# Altium schematic symbol library Microchip Power Management Power MOSFET.SchLib: 11 symbols
Pins are listed as number, name and electrical type; pins without a type are passive.

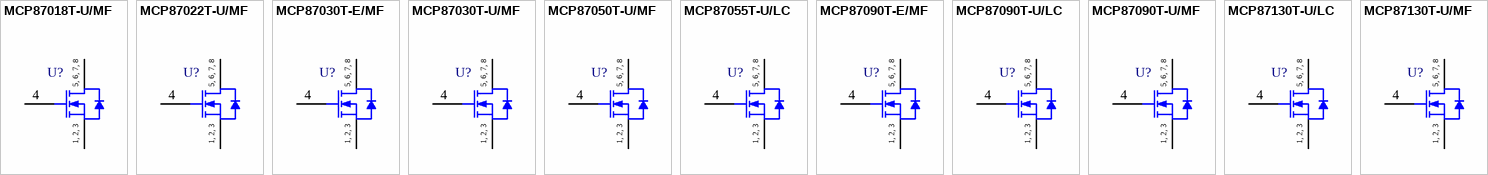
[diagram p0: symbols MCP87018T-U/MF to MCP87130T-U/MF]

## MCP87018T-U/MF
designator U?
High-Speed N-Channel Power MOSFET, Single Configuration, 25 V, -55 to 150 degC, 8-pin PDFN (MF8), Tape and Reel; Manufacturer: Microchip; PartNumber: MCP87018T-U/MF; DatasheetVersion: Rev. A; PackageVersion: C04-188B; PackageReference: PDFN-MF8; PackageDescription: 8-Lead Power Dual Flatpack No Lead Package, 5 x 6 mm Body, 1.27 mm Pitch; Supplier 1: Digi-Key; Supplier Part Number 1: MCP87018T-U/MF-ND; Supplier 2: Newark; Supplier Part Number 2: 53W9402; Supplier 3: Mouser; Supplier Part Number 3: 579-MCP87018T-U/MF; Mounting Technology: Surface Mount; ComponentLink1Description: Manufacturer URL; ComponentLink1URL: http://www.microchip.com; ComponentLink2Description: Datasheet; ComponentLink2URL: http://ww1.microchip.com/downloads/en/DeviceDoc/22329A.pdf; ComponentLink3Description: Package Specification; ComponentLink3URL: http://www.microchip.com/stellent/groups/techpub_sg/documents/packagingspec/en012702.pdf; ComponentLink4Description: Product URL; ComponentLink4URL: http://www.microchip.com/MCP87018
footprint MCHP-PDFN-MF8_V (PDFN, 8-Leads, Body 6x5mm, Pitch 1.27mm)
pins: 1 S "Source pin", 2 S "Source pin", 3 S "Source pin", 4 G "Gate pin", 5 D "Drain pin, including exposed thermal pad", 6 D "Drain pin, including exposed thermal pad", 7 D "Drain pin, including exposed thermal pad", 8 D "Drain pin, including exposed thermal pad"
text: 5, 6, 7, 8; 1, 2, 3

## MCP87022T-U/MF
designator U?
High-Speed N-Channel Power MOSFET, Single Configuration, 25 V, -55 to 150 degC, 8-pin PDFN (MF8), Tape and Reel; Manufacturer: Microchip; PartNumber: MCP87022T-U/MF; DatasheetVersion: Rev. B; PackageVersion: C04-188B; PackageReference: PDFN-MF8; PackageDescription: 8-Lead Power Dual Flatpack No Lead Package, 5 x 6 mm Body, 1.27 mm Pitch; Supplier 1: Digi-Key; Supplier Part Number 1: MCP87022T-U/MF-ND; Supplier 2: Newark; Supplier Part Number 2: 47W6614; Supplier 3: Mouser; Supplier Part Number 3: 579-MCP87022T-U/MF; Mounting Technology: Surface Mount; ComponentLink1Description: Manufacturer URL; ComponentLink1URL: http://www.microchip.com; ComponentLink2Description: Datasheet; ComponentLink2URL: http://ww1.microchip.com/downloads/en/DeviceDoc/25133B.pdf; ComponentLink3Description: Package Specification; ComponentLink3URL: http://www.microchip.com/stellent/groups/techpub_sg/documents/packagingspec/en012702.pdf; ComponentLink4Description: Product URL; ComponentLink4URL: http://www.microchip.com/MCP87022
footprint MCHP-PDFN-MF8_V (PDFN, 8-Leads, Body 6x5mm, Pitch 1.27mm)
pins: 1 S "Source pin", 2 S "Source pin", 3 S "Source pin", 4 G "Gate pin", 5 D "Drain pin, including exposed thermal pad", 6 D "Drain pin, including exposed thermal pad", 7 D "Drain pin, including exposed thermal pad", 8 D "Drain pin, including exposed thermal pad"
text: 5, 6, 7, 8; 1, 2, 3

## MCP87030T-E/MF
designator U?
High-Speed N-Channel Power MOSFET, Single Configuration, 25 V, -40 to 125 degC, 8-pin PDFN (MF8), Tape and Reel; Manufacturer: Microchip; PartNumber: MCP87030T-E/MF; DatasheetVersion: Rev. A; PackageVersion: C04-188B; PackageReference: PDFN-MF8; PackageDescription: 8-Lead Power Dual Flatpack No Lead Package, 5 x 6 mm Body, 1.27 mm Pitch; Mounting Technology: Surface Mount; ComponentLink1Description: Manufacturer URL; ComponentLink1URL: http://www.microchip.com; ComponentLink2Description: Datasheet; ComponentLink2URL: http://ww1.microchip.com/downloads/en/DeviceDoc/22328A.pdf; ComponentLink3Description: Package Specification; ComponentLink3URL: http://www.microchip.com/stellent/groups/techpub_sg/documents/packagingspec/en012702.pdf; ComponentLink4Description: Product URL; ComponentLink4URL: http://www.microchip.com/MCP87030
footprint MCHP-PDFN-MF8_V (PDFN, 8-Leads, Body 6x5mm, Pitch 1.27mm)
pins: 1 S "Source pin", 2 S "Source pin", 3 S "Source pin", 4 G "Gate pin", 5 D "Drain pin, including exposed thermal pad", 6 D "Drain pin, including exposed thermal pad", 7 D "Drain pin, including exposed thermal pad", 8 D "Drain pin, including exposed thermal pad"
text: 5, 6, 7, 8; 1, 2, 3

## MCP87030T-U/MF
designator U?
High-Speed N-Channel Power MOSFET, Single Configuration, 25 V, -55 to 150 degC, 8-pin PDFN (MF8), Tape and Reel; Manufacturer: Microchip; PartNumber: MCP87030T-U/MF; DatasheetVersion: Rev. A; PackageVersion: C04-188B; PackageReference: PDFN-MF8; PackageDescription: 8-Lead Power Dual Flatpack No Lead Package, 5 x 6 mm Body, 1.27 mm Pitch; Supplier 1: Digi-Key; Supplier Part Number 1: MCP87030T-U/MF-ND; Supplier 2: Newark; Supplier Part Number 2: 53W9403; Supplier 3: Mouser; Supplier Part Number 3: 579-MCP87030T-U/MF; Mounting Technology: Surface Mount; ComponentLink1Description: Manufacturer URL; ComponentLink1URL: http://www.microchip.com; ComponentLink2Description: Datasheet; ComponentLink2URL: http://ww1.microchip.com/downloads/en/DeviceDoc/22328A.pdf; ComponentLink3Description: Package Specification; ComponentLink3URL: http://www.microchip.com/stellent/groups/techpub_sg/documents/packagingspec/en012702.pdf; ComponentLink4Description: Product URL; ComponentLink4URL: http://www.microchip.com/MCP87030
footprint MCHP-PDFN-MF8_V (PDFN, 8-Leads, Body 6x5mm, Pitch 1.27mm)
pins: 1 S "Source pin", 2 S "Source pin", 3 S "Source pin", 4 G "Gate pin", 5 D "Drain pin, including exposed thermal pad", 6 D "Drain pin, including exposed thermal pad", 7 D "Drain pin, including exposed thermal pad", 8 D "Drain pin, including exposed thermal pad"
text: 5, 6, 7, 8; 1, 2, 3

## MCP87050T-U/MF
designator U?
High-Speed N-Channel Power MOSFET, Single Configuration, 25 V, -55 to 150 degC, 8-pin PDFN (MF8), Tape and Reel; Manufacturer: Microchip; PartNumber: MCP87050T-U/MF; DatasheetVersion: Rev. B; PackageVersion: C04-188B; PackageReference: PDFN-MF8; PackageDescription: 8-Lead Power Dual Flatpack No Lead Package, 5 x 6 mm Body, 1.27 mm Pitch; Supplier 1: Digi-Key; Supplier Part Number 1: MCP87050T-U/MF-ND; Supplier 2: Newark; Supplier Part Number 2: 47W6615; Supplier 3: Mouser; Supplier Part Number 3: 579-MCP87050T-U/MF; Mounting Technology: Surface Mount; ComponentLink1Description: Manufacturer URL; ComponentLink1URL: http://www.microchip.com; ComponentLink2Description: Datasheet; ComponentLink2URL: http://ww1.microchip.com/downloads/en/DeviceDoc/22308B.pdf; ComponentLink3Description: Package Specification; ComponentLink3URL: http://www.microchip.com/stellent/groups/techpub_sg/documents/packagingspec/en012702.pdf; ComponentLink4Description: Product URL; ComponentLink4URL: http://www.microchip.com/MCP87050
footprint MCHP-PDFN-MF8_V (PDFN, 8-Leads, Body 6x5mm, Pitch 1.27mm)
pins: 1 S "Source pin", 2 S "Source pin", 3 S "Source pin", 4 G "Gate pin", 5 D "Drain pin, including exposed thermal pad", 6 D "Drain pin, including exposed thermal pad", 7 D "Drain pin, including exposed thermal pad", 8 D "Drain pin, including exposed thermal pad"
text: 5, 6, 7, 8; 1, 2, 3

## MCP87055T-U/LC
designator U?
High-Speed N-Channel Power MOSFET, Single Configuration, 25 V, -55 to 150 degC, 8-Pin PDFN (LC8), Tape and Reel; Manufacturer: Microchip; PartNumber: MCP87055T-U/LC; DatasheetVersion: Rev. B; PackageVersion: C04-195A; PackageReference: PDFN-LC8; PackageDescription: 8-Lead Power Dual Flatpack No Lead Package, 3.3 x 3.3 mm Body, 0.65 mm Pitch; Supplier 1: Digi-Key; Supplier Part Number 1: MCP87055T-U/LCTR-ND; Supplier 2: Digi-Key; Supplier Part Number 2: MCP87055T-U/LCCT-ND; Supplier 3: Digi-Key; Supplier Part Number 3: MCP87055T-U/LCDKR-ND; Supplier 4: Farnell; Supplier Part Number 4: 2309501; Supplier 5: Newark; Supplier Part Number 5: 90W1537; Supplier 6: Newark; Supplier Part Number 6: 72W2097; Supplier 7: Newark; Supplier Part Number 7: 47W6616; Supplier 8: Mouser; Supplier Part Number 8: 579-MCP87055T-U/LC; Packing: Tape and Reel; Mounting Technology: Surface Mount; ComponentLink1Description: Manufacturer URL; ComponentLink1URL: http://www.microchip.com/; ComponentLink2Description: Datasheet; ComponentLink2URL: http://ww1.microchip.com/downloads/en/DeviceDoc/22323B.pdf; ComponentLink3Description: Package Specification; ComponentLink3URL: http://ww1.microchip.com/downloads/en/DeviceDoc/20002332B.pdf
footprint MCHP-PDFN-LC8_V (SON, 8-Leads, Body 3.3x3.3mm, Pitch 0.65mm)
pins: 1 S "Source pin", 2 S "Source pin", 3 S "Source pin", 4 G "Gate pin", 5 D "Drain pin, including exposed thermal pad", 6 D "Drain pin, including exposed thermal pad", 7 D "Drain pin, including exposed thermal pad", 8 D "Drain pin, including exposed thermal pad"
text: 5, 6, 7, 8; 1, 2, 3

## MCP87090T-E/MF
designator U?
High-Speed N-Channel Power MOSFET, Single Configuration, 25 V, -40 to 125 degC, 8-pin PDFN (MF8), Tape and Reel; Manufacturer: Microchip; PartNumber: MCP87090T-E/MF; DatasheetVersion: Rev. A; PackageVersion: C04-188B; PackageReference: PDFN-MF8; PackageDescription: 8-Lead Power Dual Flatpack No Lead Package, 5 x 6 mm Body, 1.27 mm Pitch; Mounting Technology: Surface Mount; ComponentLink1Description: Manufacturer URL; ComponentLink1URL: http://www.microchip.com; ComponentLink2Description: Datasheet; ComponentLink2URL: http://ww1.microchip.com/downloads/en/DeviceDoc/22332A.pdf; ComponentLink3Description: Package Specification; ComponentLink3URL: http://www.microchip.com/stellent/groups/techpub_sg/documents/packagingspec/en012702.pdf; ComponentLink4Description: Product URL; ComponentLink4URL: http://www.microchip.com/MCP87090
footprint MCHP-PDFN-MF8_V (PDFN, 8-Leads, Body 6x5mm, Pitch 1.27mm)
pins: 1 S "Source pin", 2 S "Source pin", 3 S "Source pin", 4 G "Gate pin", 5 D "Drain pin, including exposed thermal pad", 6 D "Drain pin, including exposed thermal pad", 7 D "Drain pin, including exposed thermal pad", 8 D "Drain pin, including exposed thermal pad"
text: 5, 6, 7, 8; 1, 2, 3

## MCP87090T-U/LC
designator U?
High-Speed N-Channel Power MOSFET, Single Configuration, 25 V, -55 to 150 degC, 8-Pin PDFN (LC8), Tape and Reel; Manufacturer: Microchip; PartNumber: MCP87090T-U/LC; DatasheetVersion: Rev. B; PackageVersion: C04-195A; PackageReference: PDFN-LC8; PackageDescription: 8-Lead Power Dual Flatpack No Lead Package, 3.3 x 3.3 mm Body, 0.65 mm Pitch; Supplier 1: Digi-Key; Supplier Part Number 1: MCP87090T-U/LCTR-ND; Supplier 2: Digi-Key; Supplier Part Number 2: MCP87090T-U/LCCT-ND; Supplier 3: Digi-Key; Supplier Part Number 3: MCP87090T-U/LCDKR-ND; Supplier 4: Farnell; Supplier Part Number 4: 2309502; Supplier 5: Newark; Supplier Part Number 5: 90W1538; Supplier 6: Newark; Supplier Part Number 6: 72W2098; Supplier 7: Newark; Supplier Part Number 7: 53W9404; Supplier 8: Mouser; Supplier Part Number 8: 579-MCP87090T-U/LC; Packing: Tape and Reel; Mounting Technology: Surface Mount; ComponentLink1Description: Manufacturer URL; ComponentLink1URL: http://www.microchip.com/; ComponentLink2Description: Datasheet; ComponentLink2URL: http://ww1.microchip.com/downloads/en/DeviceDoc/20002332B.pdf; ComponentLink3Description: Package Specification; ComponentLink3URL: http://ww1.microchip.com/downloads/en/DeviceDoc/20002332B.pdf
footprint MCHP-PDFN-LC8_V (SON, 8-Leads, Body 3.3x3.3mm, Pitch 0.65mm)
pins: 1 S "Source pin", 2 S "Source pin", 3 S "Source pin", 4 G "Gate pin", 5 D "Drain pin, including exposed thermal pad", 6 D "Drain pin, including exposed thermal pad", 7 D "Drain pin, including exposed thermal pad", 8 D "Drain pin, including exposed thermal pad"
text: 5, 6, 7, 8; 1, 2, 3

## MCP87090T-U/MF
designator U?
High-Speed N-Channel Power MOSFET, Single Configuration, 25 V, -55 to 150 degC, 8-pin PDFN (MF8), Tape and Reel; Manufacturer: Microchip; PartNumber: MCP87090T-U/MF; DatasheetVersion: Rev. A; PackageVersion: C04-188B; PackageReference: PDFN-MF8; PackageDescription: 8-Lead Power Dual Flatpack No Lead Package, 5 x 6 mm Body, 1.27 mm Pitch; Supplier 1: Digi-Key; Supplier Part Number 1: MCP87090T-U/MF-ND; Supplier 2: Newark; Supplier Part Number 2: 53W9405; Supplier 3: Mouser; Supplier Part Number 3: 579-MCP87090T-U/MF; Mounting Technology: Surface Mount; ComponentLink1Description: Manufacturer URL; ComponentLink1URL: http://www.microchip.com; ComponentLink2Description: Datasheet; ComponentLink2URL: http://ww1.microchip.com/downloads/en/DeviceDoc/22332A.pdf; ComponentLink3Description: Package Specification; ComponentLink3URL: http://www.microchip.com/stellent/groups/techpub_sg/documents/packagingspec/en012702.pdf; ComponentLink4Description: Product URL; ComponentLink4URL: http://www.microchip.com/MCP87090
footprint MCHP-PDFN-MF8_V (PDFN, 8-Leads, Body 6x5mm, Pitch 1.27mm)
pins: 1 S "Source pin", 2 S "Source pin", 3 S "Source pin", 4 G "Gate pin", 5 D "Drain pin, including exposed thermal pad", 6 D "Drain pin, including exposed thermal pad", 7 D "Drain pin, including exposed thermal pad", 8 D "Drain pin, including exposed thermal pad"
text: 5, 6, 7, 8; 1, 2, 3

## MCP87130T-U/LC
designator U?
High-Speed N-Channel Power MOSFET, Single Configuration, 25 V, -55 to 150 degC, 8-Pin PDFN (LC8), Tape and Reel; Manufacturer: Microchip; PartNumber: MCP87130T-U/LC; DatasheetVersion: Rev. B; PackageVersion: C04-195A; PackageReference: PDFN-LC8; PackageDescription: 8-Lead Power Dual Flatpack No Lead Package, 3.3 x 3.3 mm Body, 0.65 mm Pitch; Supplier 1: Digi-Key; Supplier Part Number 1: MCP87130T-U/LCTR-ND; Supplier 2: Digi-Key; Supplier Part Number 2: MCP87130T-U/LCCT-ND; Supplier 3: Digi-Key; Supplier Part Number 3: MCP87130T-U/LCDKR-ND; Supplier 4: Farnell; Supplier Part Number 4: 2309504; Supplier 5: Newark; Supplier Part Number 5: 90W1540; Supplier 6: Newark; Supplier Part Number 6: 72W2100; Supplier 7: Newark; Supplier Part Number 7: 53W9406; Supplier 8: Mouser; Supplier Part Number 8: 579-MCP87130T-U/LC; Packing: Tape and Reel; Mounting Technology: Surface Mount; ComponentLink1Description: Manufacturer URL; ComponentLink1URL: http://www.microchip.com/; ComponentLink2Description: Datasheet; ComponentLink2URL: http://ww1.microchip.com/downloads/en/DeviceDoc/20005159B.pdf; ComponentLink3Description: Package Specification; ComponentLink3URL: http://ww1.microchip.com/downloads/en/DeviceDoc/20002332B.pdf
footprint MCHP-PDFN-LC8_V (SON, 8-Leads, Body 3.3x3.3mm, Pitch 0.65mm)
pins: 1 S "Source pin", 2 S "Source pin", 3 S "Source pin", 4 G "Gate pin", 5 D "Drain pin, including exposed thermal pad", 6 D "Drain pin, including exposed thermal pad", 7 D "Drain pin, including exposed thermal pad", 8 D "Drain pin, including exposed thermal pad"
text: 5, 6, 7, 8; 1, 2, 3

## MCP87130T-U/MF
designator U?
High-Speed N-Channel Power MOSFET, Single Configuration, 25 V, -55 to 150 degC, 8-pin PDFN (MF8), Tape and Reel; Manufacturer: Microchip; PartNumber: MCP87130T-U/MF; DatasheetVersion: Rev. A; PackageVersion: C04-188B; PackageReference: PDFN-MF8; PackageDescription: 8-Lead Power Dual Flatpack No Lead Package, 5 x 6 mm Body, 1.27 mm Pitch; Supplier 1: Digi-Key; Supplier Part Number 1: MCP87130T-U/MF-ND; Supplier 2: Newark; Supplier Part Number 2: 53W9407; Supplier 3: Mouser; Supplier Part Number 3: 579-MCP87130T-U/MF; Mounting Technology: Surface Mount; ComponentLink1Description: Manufacturer URL; ComponentLink1URL: http://www.microchip.com; ComponentLink2Description: Datasheet; ComponentLink2URL: http://ww1.microchip.com/downloads/en/DeviceDoc/25159A.pdf; ComponentLink3Description: Package Specification; ComponentLink3URL: http://www.microchip.com/stellent/groups/techpub_sg/documents/packagingspec/en012702.pdf; ComponentLink4Description: Product URL; ComponentLink4URL: http://www.microchip.com/MCP87130
footprint MCHP-PDFN-MF8_V (PDFN, 8-Leads, Body 6x5mm, Pitch 1.27mm)
pins: 1 S "Source pin", 2 S "Source pin", 3 S "Source pin", 4 G "Gate pin", 5 D "Drain pin, including exposed thermal pad", 6 D "Drain pin, including exposed thermal pad", 7 D "Drain pin, including exposed thermal pad", 8 D "Drain pin, including exposed thermal pad"
text: 5, 6, 7, 8; 1, 2, 3